# Altium schematic symbol library C0402C100K5GACAUTO.SchLib: 2 symbols
Pins are listed as number, name and electrical type; pins without a type are passive.

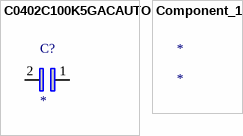
[diagram p0: symbols C0402C100K5GACAUTO to Component_1]

## C0402C100K5GACAUTO
designator C?
/ CAPACITOR CERAMIC 10 PF 10% TOL 50V C0G 0402 /; MF: KEMET; MP: C0402C100K5GACAUTO; SnapEDA_Link: https://www.snapeda.com/parts/C0402C100K5GACAUTO/KEMET/view-part/?ref=snap; Availability: Unavailable; Package: 0402 KEMET; Price: None; Value: *
footprint _C*CAPC1005X55N_CC0402C100K5GACAUTO_CPrimary_C
pins: 1, 2

## Component_1
designator *